# Altium footprint library PCB_Image.PcbLib: 12 footprints
Each footprint in its own frame and in the unit in brackets; x right, y up, seen from the top. Pads: shape width x height; smd on the part's side, far side on the other; paste and mask are expansions set on the pad; w line width, h text height; cw(c..) or ccw(c..) is an arc to the next point about the centre after c.
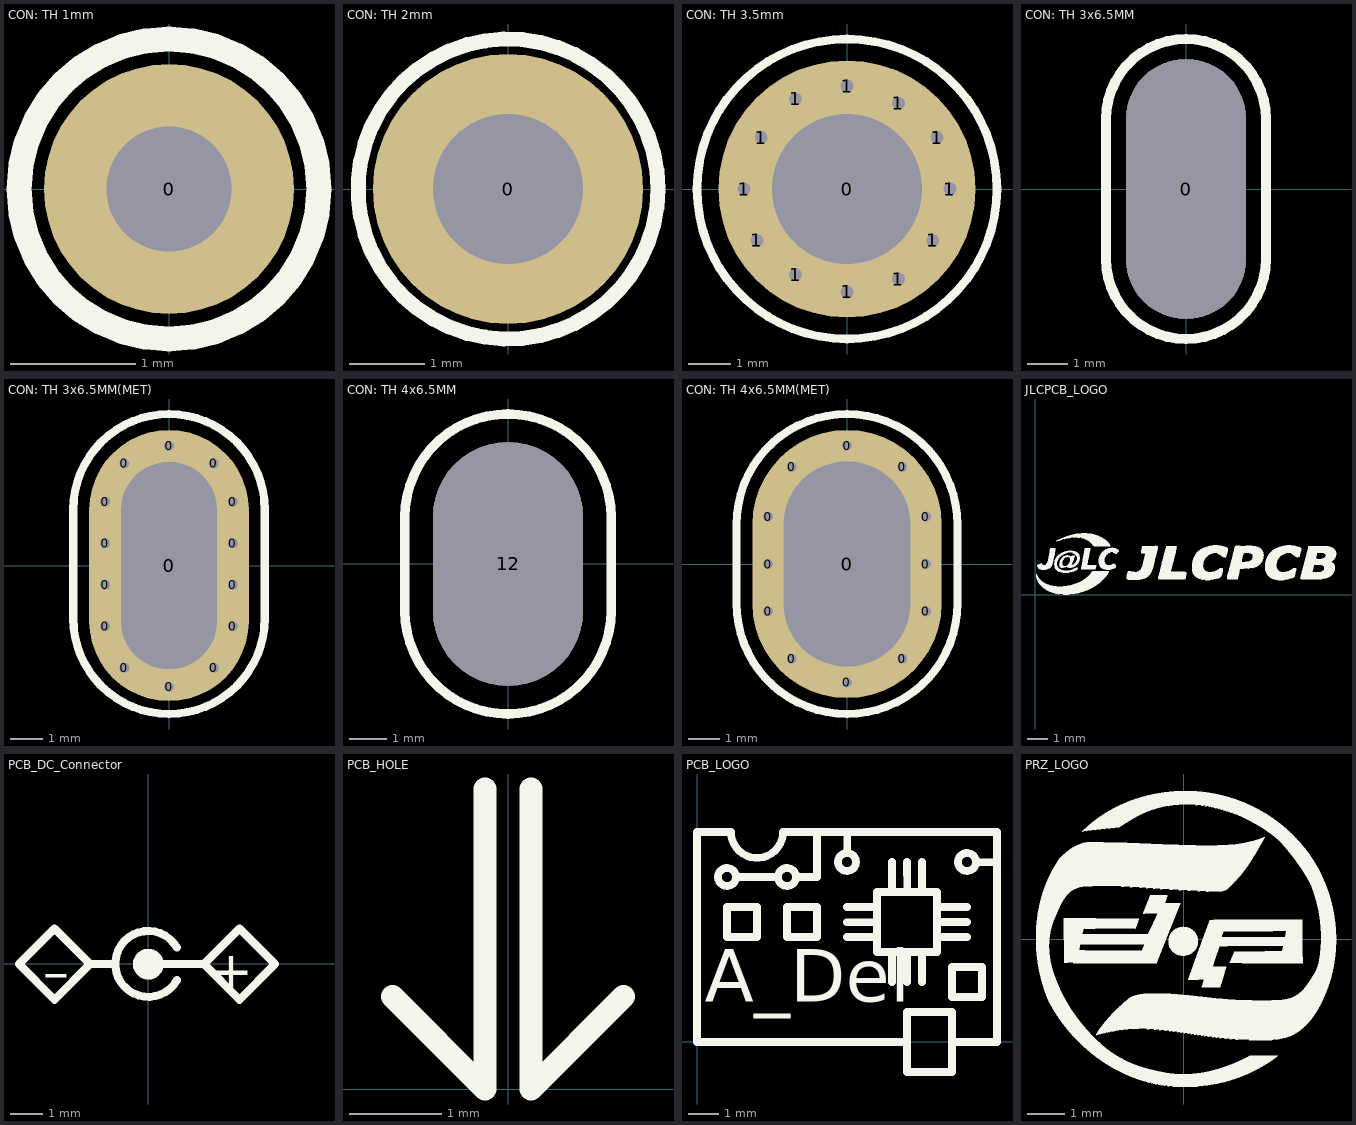
[diagram p0: the footprints below, top view; thin cyan lines are the x and y axes]

## CON: TH 1mm [mm]
pads (1):
  round 2 hole 1 mask+0.075: 0(0,0)
Top Overlay:
  circle w0.2: c0,0 r1.2
Mechanical 15:
  circle w0.1: c0,0 r1.2
  lines w0.1: -0.5,0 0.5,0 ; 0,-0.5 0,0.5

## CON: TH 2mm [mm]
pads (1):
  round 3.6 hole 2 mask+0.075: 0(0,0)
Top Overlay:
  circle w0.2: c0,0 r2
Mechanical 15:
  circle w0.1: c0,0 r2
  lines w0.1: -0.5,0 0.5,0 ; 0,-0.5 0,0.5

## CON: TH 3.5mm [mm]
pads (13):
  round 6 hole 3.5: 0(0,0)
  round 0.7 hole 0.3: 1(-2.4,0) 1(-2.1,-1.2) 1(-2,1.2) 1(-1.2,-2) 1(-1.2,2.1) 1(0,-2.4) 1(0,2.4) 1(1.2,-2.1) 1(1.2,2) 1(2,-1.2) 1(2.1,1.2) 1(2.4,0)
Top Overlay:
  circle w0.2: c0,0 r3.5
Bottom Overlay:
  circle w0.2: c0,0 r3.5

## CON: TH 3x6.5MM [mm]
pads (1):
  rrect100% 3x6.5 hole 3 slot 6.5 at 90 deg unplated: 0(0,0)
Top Overlay:
  lines w0.254: -2,-1.752 -2,1.75 cw(c0,1.75) 2,1.75 2,-1.75 cw(c0,-1.75) -2,-1.75
Bottom Overlay:
  lines w0.254: -2,-1.818 -2,1.691 ; -2,-1.75 ccw(c0,-1.75) 2,-1.75 ; -2,1.75 cw(c0,1.75) 2,1.75 ; 2,-1.818 2,1.682

## CON: TH 3x6.5MM(MET) [mm]
pads (15):
  rrect100% 0.5x0.5 hole 0.3: 0(-2,-1.9) 0(-2,-0.6) 0(-2,0.7) 0(-2,2) 0(-1.4,-3.2) 0(-1.4,3.2) 0(0,-3.8) 0(0,3.75) 0(1.4,-3.2) 0(1.4,3.2) 0(2,-1.9) 0(2,-0.6) 0(2,0.7) 0(2,2)
  rrect100% 5x8.5 hole 3 slot 6.5 at 90 deg: 0(0,0)
Top Overlay:
  lines w0.254: -3,-1.65 ccw(c0,-1.65) 3,-1.65 3,1.75 ccw(c0,1.75) -3,1.75 -3,-1.65
Bottom Overlay:
  lines w0.254: -3,-1.65 ccw(c0,-1.65) 3,-1.65 3,1.75 ccw(c0,1.75) -3,1.75 -3,-1.65

## CON: TH 4x6.5MM [mm]
pads (1):
  rrect100% 4x6.5 hole 4 slot 6.5 at 90 deg unplated: 12(0,0)
Top Overlay:
  lines w0.254: -2.75,-1.25 ccw(c0,-1.25) 2.75,-1.25 2.75,1.25 ccw(c0,1.25) -2.75,1.25 -2.75,-1.25
Bottom Overlay:
  lines w0.254: -2.75,-1.25 ccw(c0,-1.25) 2.75,-1.25 2.75,1.25 ccw(c0,1.25) -2.75,1.25 -2.75,-1.25

## CON: TH 4x6.5MM(MET) [mm]
pads (13):
  rrect100% 0.5x0.5 hole 0.3: 0(-2.5,-1.5) 0(-2.5,0) 0(-2.5,1.5) 0(-1.75,-3) 0(-1.75,3.073) 0(0,-3.75) 0(0,3.75) 0(1.75,-3) 0(1.75,3.073) 0(2.5,-1.5) 0(2.5,0) 0(2.5,1.5)
  rrect100% 6x8.5 hole 4 slot 6.5 at 90 deg: 0(0,0)
Top Overlay:
  lines w0.254: -3.501,-1.289 -3.501,1.211 ; -3.5,-1.25 ccw(c0,-1.25) 3.5,-1.25 3.5,1.25 ccw(c0,1.25) -3.5,1.25

## JLCPCB_LOGO [mm]
Top Overlay:
  drawing of 12 lines, arcs and shapes, not listed

## PCB_DC_Connector [mm] "Size 8x4,5mm"
Top Overlay:
  circle w0.254: c-0.005,-0.008 r0.12
  circle w0.254: c0,-0.008 r0.35
  lines w0.25: -1.1,-0.008 -1.8,-0.008 ; 0.225,-0.008 1.719,-0.008 ; 0.884,0.509 ccw(c0,0) 0.888,-0.501 ; -1.8,-0.008 -2.9,-1.108 -4,-0.008 -2.9,1.092 -1.8,-0.008 ; 1.719,-0.008 2.819,1.092 3.919,-0.008 2.819,-1.108 1.719,-0.008
  text "+" at 3.25,0.617 h2.03
  text "–" at -2.438,0.457 h2.03

## PCB_HOLE [mm]
Top Overlay:
  lines w0.25: -1.254,1 -0.254,0 -0.254,3.25 ; 0.246,3.25 0.246,0 1.246,1

## PCB_LOGO [mm]
Top Overlay:
  circle w0.254: c9,6 r0.3
  circle w0.254: c5,6 r0.3
  circle w0.254: c3,5.5 r0.3
  circle w0.254: c1,5.5 r0.3
  lines w0.254: 1.3,5.5 2.702,5.5 ; 3.3,5.5 4,5.5 4,7 ; 5,3.5 6,3.5 ; 5,3.997 6,3.997 ; 5,4.5 6,4.5 ; 5.003,6.327 5.003,7 ; 6.5,2 6.5,3 ; 6.5,5 6.5,6 ; 7,2 7,3 ; 7,6 7.003,5 ; 7.004,0 0,0 0,7 1.134,7 ccw(c2,7) 2.866,7 10,7 10,0 8.5,0 ; 7.499,5 7.5,6 ; 7.5,2 7.5,3 ; 8,3.5 9,3.5 ; 8,4 9,4 ; 8,4.5 9,4.5 ; 9.3,5.991 10,5.991 ; 1,3.5 2,3.5 2,4.5 1,4.5 1,3.5 ; 3,3.5 4,3.5 4,4.5 3,4.5 3,3.5 ; 6,2.998 8,2.998 8,4.998 6,4.998 6,2.998 ; 7,-1 8.5,-1 8.5,1 7,1 7,-1 ; 8.5,1.5 9.5,1.5 9.5,2.5 8.5,2.5 8.5,1.5
  text "A_Del" at 0.257,0.766 h3

## PRZ_LOGO [mm]
Top Overlay:
  drawing of 5 lines, arcs and shapes, not listed